# Altium integrated library 0532610871.IntLib: 1 symbol
Pins are listed as number, name and electrical type; pins without a type are passive.

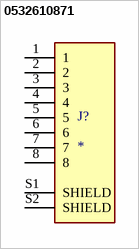
[diagram p0: symbol 0532610871]

## 0532610871
designator J?
Picoblade Connector, 8 Circuit Single Row, Right Angle Surface Mount SMT PCB; MF: Molex; MP: 0532610871; Package: None; Price: None; Check_prices: https://www.snapeda.com/parts/0532610871/Molex/view-part/?ref=eda; Value: *; SnapEDA_Link: https://www.snapeda.com/parts/0532610871/Molex/view-part/?ref=snap; Availability: In Stock; Purchase-URL: https://pricing.snapeda.com/search/part/0532610871/?ref=eda
footprint MOLEX_0532610871
pins: 1, 2, 3, 4, 5, 6, 7, 8, S1 SHIELD, S2 SHIELD